# Altium schematic symbol library components.SchLib: 1 symbol
Pins are listed as number, name and electrical type; pins without a type are passive.

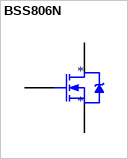
[diagram p0: symbol BSS806N]

## BSS806N
designator *
footprint BSS806N
pins: 1 G, 2 S, 3 D